# Altium footprint library ZX_UNO_Aplus2.PcbLib: 24 footprints (part 2 of 2)
Each footprint in its own frame and in the unit in brackets; x right, y up, seen from the top. Pads: shape width x height; smd on the part's side, far side on the other; paste and mask are expansions set on the pad; w line width, h text height; cw(c..) or ccw(c..) is an arc to the next point about the centre after c.
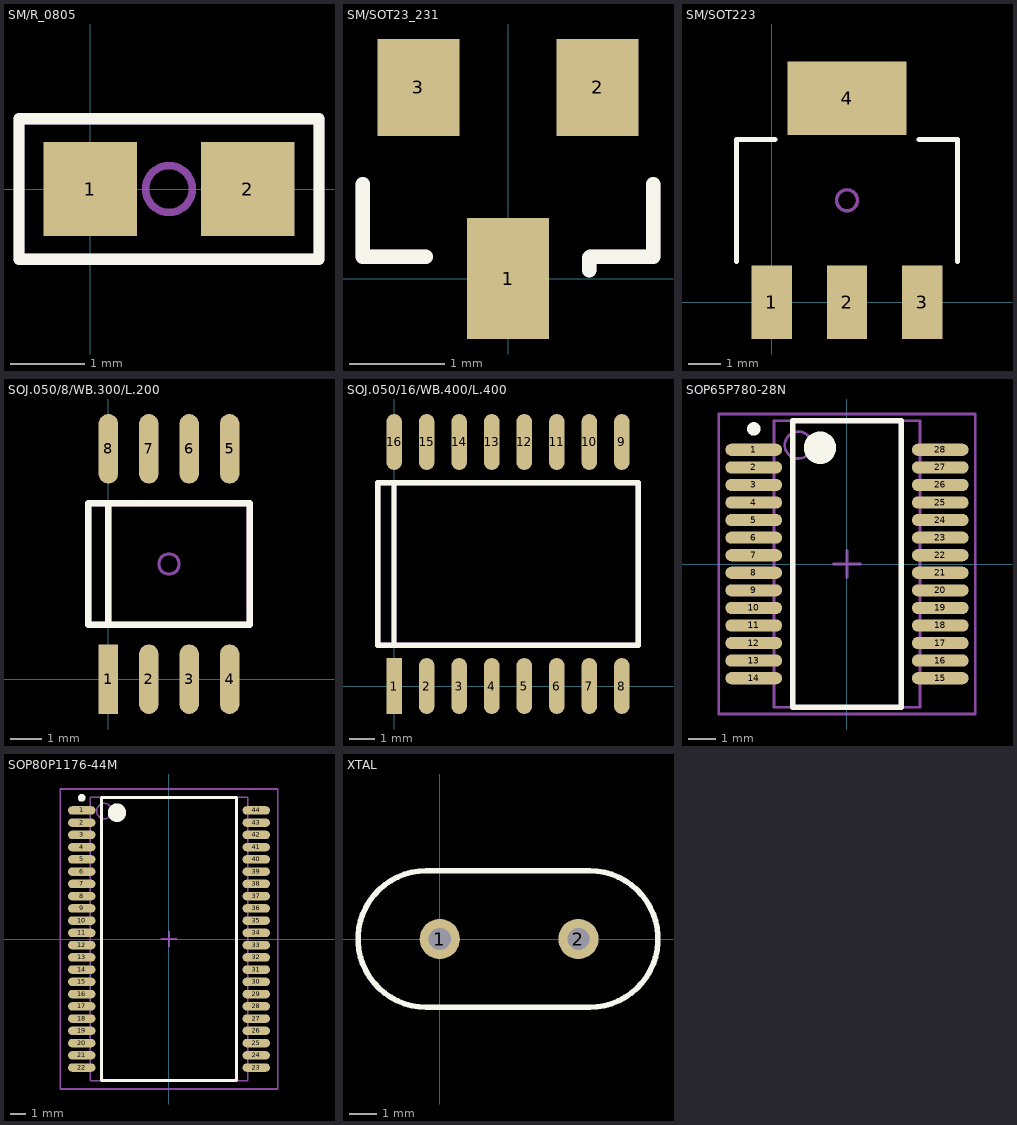
[diagram p1: the footprints below, top view; thin cyan lines are the x and y axes]

## SM/R_0805 [mil]
height 212.6
pads (2):
  rect 50x50 smd: 1(0,0) 2(84,0)
Top Overlay:
  lines w6: -38,-37.5 -38,37.5 122,37.5 122,-37.5 -38,-37.5
Mechanical 1:
  lines w6: -38,-37.5 -38,37.5 122,37.5 122,-37.5 -38,-37.5
Mechanical 3:
  lines w4: 29.5,0 ccw(c42,0) 42,-12.5 ccw(c42,0) 54.5,0 ccw(c42,0) 42,12.5 ccw(c42,0) 29.5,0

## SM/SOT23_231 [mil]
pads (3):
  rect 34x50 smd: 1(0,0)
  rect 34x40 smd: 2(37,79) 3(-37,79)
Top Overlay:
  lines w6: -60,39 -60,9 -34,9 ; 33.5,3.5 33.5,8.5 ; 34,9 60,9 60,39
Mechanical 2:
  lines w6: -60,39 -60,9 -34,9 ; 33.5,3.5 33.5,8.5 ; 34,9 60,9 60,39

## SM/SOT223 [mil]
height 23.62
pads (4):
  rect 48x88 smd: 1(0,0) 2(90,0) 3(180,0)
  rect 142x88 smd: 4(90,244)
Top Overlay:
  lines w6: -42,49 -42,195 4,195 ; 176,195 222,195 222,49
Mechanical 1:
  lines w6: -42,49 -42,195 4,195 ; 176,195 222,195 222,49
Mechanical 3:
  lines w4: 77.5,122 cw(c90,122) 90,134.5 cw(c90,122) 102.5,122 cw(c90,122) 90,109.5 cw(c90,122) 77.5,122

## SOJ.050/8/WB.300/L.200 [mil]
pads (8):
  rect 24x86 smd: 1(0,0)
  oval 24x86 smd: 2(50,0) 3(100,0) 4(150,0) 5(150,285) 6(100,285) 7(50,285) 8(0,285)
Top Overlay:
  lines w8: 0,67.5 0,217.5 ; -25,67.5 175,67.5 175,217.5 -25,217.5 -25,67.5
Mechanical 1:
  lines w8: 0,67.5 0,217.5 ; -25,67.5 -25,217.5 175,217.5 175,67.5 -25,67.5
Mechanical 3:
  lines w4: 62.5,142.5 ccw(c75,142.5) 75,130 ccw(c75,142.5) 87.5,142.5 ccw(c75,142.5) 75,155 ccw(c75,142.5) 62.5,142.5

## SOJ.050/16/WB.400/L.400 [mil]
pads (16):
  rect 24x86 smd: 1(0,0)
  oval 24x86 smd: 2(50,0) 3(100,0) 4(150,0) 5(200,0) 6(250,0) 7(300,0) 8(350,0) 9(350,375) 10(300,375) 11(250,375) 12(200,375) 13(150,375) 14(100,375) 15(50,375) 16(0,375)
Top Overlay:
  lines w8: 0,62.5 0,312.5 ; -25,62.5 -25,312.5 375,312.5 375,62.5 -25,62.5
Mechanical 1:
  lines w8: 0,62.5 0,312.5 ; -25,62.5 -25,312.5 375,312.5 375,62.5 -25,62.5

## SOP65P780-28N [mm] "SOP, 28-Leads, Body 10.2x5.3mm, Pitch 0.65mm, IPC Medium Density"
height 2
pads (28):
  oval 2.1x0.45 smd: 1(-3.45,4.225) 2(-3.45,3.575) 3(-3.45,2.925) 4(-3.45,2.275) 5(-3.45,1.625) 6(-3.45,0.975) 7(-3.45,0.325) 8(-3.45,-0.325) 9(-3.45,-0.975) 10(-3.45,-1.625) 11(-3.45,-2.275) 12(-3.45,-2.925) 13(-3.45,-3.575) 14(-3.45,-4.225) 15(3.45,-4.225) 16(3.45,-3.575) 17(3.45,-2.925) 18(3.45,-2.275) 19(3.45,-1.625) 20(3.45,-0.975) 21(3.45,-0.325) 22(3.45,0.325) 23(3.45,0.975) 24(3.45,1.625) 25(3.45,2.275) 26(3.45,2.925) 27(3.45,3.575) 28(3.45,4.225)
Top Overlay:
  circle w0.25: c-3.45,5 r0.125
  circle w0.6: c-1,4.3 r0.3
  lines w0.2: -2,-5.3 -2,5.3 2,5.3 2,-5.3 -2,-5.3
Mechanical 13:
  circle w0.1: c-1.8,4.4 r0.5
  lines w0.1: -2.7,-5.3 -2.7,5.3 2.7,5.3 2.7,-5.3 -2.7,-5.3
Mechanical 15:
  lines w0.1: -0.5,0 0.5,0 ; 0,-0.5 0,0.5 ; -4.75,-5.55 -4.75,5.55 4.75,5.55 4.75,-5.55 -4.75,-5.55
3D body: height 2, standoff 0, extent -2.7,-5.3 2.7,5.3

## SOP80P1176-44M [mm] "SOP, 44-Leads, Body 18.4x10.16mm, Pitch 0.8mm, IPC Low Density"
height 1.2
pads (44):
  oval 1.8x0.55 smd: 1(-5.7,8.4) 2(-5.7,7.6) 3(-5.7,6.8) 4(-5.7,6) 5(-5.7,5.2) 6(-5.7,4.4) 7(-5.7,3.6) 8(-5.7,2.8) 9(-5.7,2) 10(-5.7,1.2) 11(-5.7,0.4) 12(-5.7,-0.4) 13(-5.7,-1.2) 14(-5.7,-2) 15(-5.7,-2.8) 16(-5.7,-3.6) 17(-5.7,-4.4) 18(-5.7,-5.2) 19(-5.7,-6) 20(-5.7,-6.8) 21(-5.7,-7.6) 22(-5.7,-8.4) 23(5.7,-8.4) 24(5.7,-7.6) 25(5.7,-6.8) 26(5.7,-6) 27(5.7,-5.2) 28(5.7,-4.4) 29(5.7,-3.6) 30(5.7,-2.8) 31(5.7,-2) 32(5.7,-1.2) 33(5.7,-0.4) 34(5.7,0.4) 35(5.7,1.2) 36(5.7,2) 37(5.7,2.8) 38(5.7,3.6) 39(5.7,4.4) 40(5.7,5.2) 41(5.7,6) 42(5.7,6.8) 43(5.7,7.6) 44(5.7,8.4)
Top Overlay:
  circle w0.25: c-5.7,9.225 r0.125
  circle w0.6: c-3.4,8.25 r0.3
  lines w0.2: -4.4,-9.25 -4.4,9.25 4.4,9.25 4.4,-9.25 -4.4,-9.25
Mechanical 13:
  circle w0.1: c-4.23,8.36 r0.5
  lines w0.1: -5.13,-9.26 -5.13,9.26 5.13,9.26 5.13,-9.26 -5.13,-9.26
Mechanical 15:
  lines w0.1: -0.5,0 0.5,0 ; 0,-0.5 0,0.5 ; -7.1,-9.8 -7.1,9.8 7.1,9.8 7.1,-9.8 -7.1,-9.8
3D body: height 1.2, standoff 0, extent -5.13,-9.26 5.13,9.26

## XTAL [mil]
pads (2):
  round 58 hole 32: 1(0,0) 2(200,0)
Top Overlay:
  lines w8: -19.69,-98.43 cw(c-19.68,0) -19.68,98.43 216.54,98.43 cw(c216.54,0) 216.54,-98.43 -19.68,-98.43